# Altium schematic symbol library MicroUSB.Schlib: 1 symbol
Pins are listed as number, name and electrical type; pins without a type are passive.

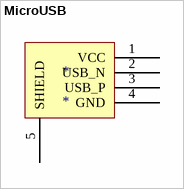
[diagram p0: symbol MicroUSB]

## MicroUSB
designator *
pins: 1 VCC, 2 USB_N, 3 USB_P, 4 GND, 5 SHIELD